# Altium schematic symbol library WSLT2010R4000FEB18.SchLib: 1 symbol
Pins are listed as number, name and electrical type; pins without a type are passive.

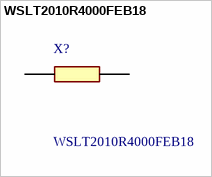
[diagram p0: symbol WSLT2010R4000FEB18]

## WSLT2010R4000FEB18
designator X?
Res Metal Strip 2010 0.4 Ohm 1% 1W +/-75ppm/C Pad SMD T/R; Manufacturer_Name: Vishay; Geometry.Height: 0.889mm; Mouser Part Number: 71-WSLT2010R4000FEB1; Mouser Price/Stock: https://www.mouser.co.uk/ProductDetail/Vishay-Dale/WSLT2010R4000FEB18?qs=%2FCIfAsUrYSWnIntGZiUXDw%3D%3D; Manufacturer_Part_Number: WSLT2010R4000FEB18; Datasheet Link: https://componentsearchengine.com/Datasheets/1/WSLT2010R4000FEB18.pdf
footprint RESC5125X89N
pins: 1, 2